# EAGLE library part T5403 (library SparkFun-Sensors_Smight)
Epcos T5403 Digital Barometric Pressure Sensor The T5403 sensor measures the absolute pressure of the air around. This pressure varies with both the weather and altitude. Depending on how you interpret the data, you can monitor changes in the weather, measure altitude, or any other tasks that require an accurate pressure reading. Datasheet <http://cdn.sparkfun.com/datasheets/Sensors/Weather/T5400.pdf> SparkFun Products SparkFun Barometric Sensor Breakout - T5403 <https://www.sparkfun.com/products/12039> (SEN-12039)
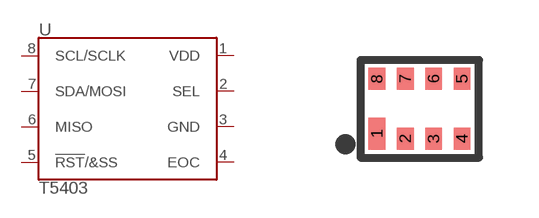
[diagram p21: symbol with the pads of T5403; footprint T5403]

Designator prefix U

## T5403 (PROD_ID: IC-11772)  [T5403]
1  VDD
2  SEL
3  GND
4  EOC
5  !RST!/&SS
6  MISO
7  SDA/MOSI
8  SCL/SCLK

## Footprint T5403 (pad centres in mm)
T5400, T54003 Digital Barometric Pressure Sensor Datasheet <http://cdn.sparkfun.com/datasheets/Sensors/Weather/T5400.pdf> Specifications: Pin Count: 8 Area: 2.78 x 2.23 x 0.5 mm Pitch: 0.71 mm Devices Using: T5403
smd 0.42 x 0.8: 1 -1.065,-0.625
smd 0.42 x 0.55: 2 -0.355,-0.75; 3 0.355,-0.75; 4 1.065,-0.75; 5 1.065,0.75; 6 0.355,0.75; 7 -0.355,0.75; 8 -1.065,0.75